# Altium footprint library SnapEDApcb.PcbLib: 1 footprints
Each footprint in its own frame and in the unit in brackets; x right, y up, seen from the top. Pads: shape width x height; smd on the part's side, far side on the other; paste and mask are expansions set on the pad; w line width, h text height; cw(c..) or ccw(c..) is an arc to the next point about the centre after c.
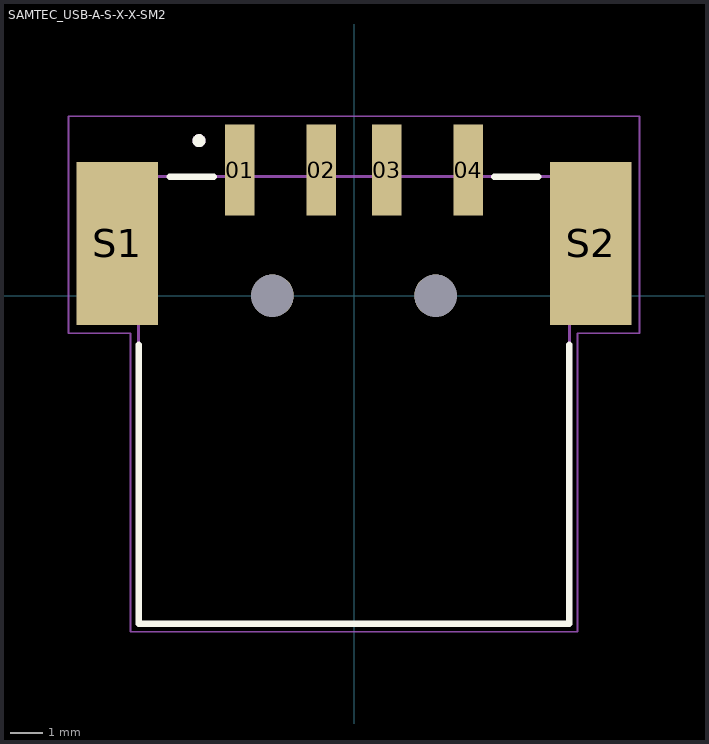
[diagram p0: the footprint, top view; thin cyan lines are the x and y axes]

## SAMTEC_USB-A-S-X-X-SM2 [mm]
pads (8):
  rrect4% 0.9x2.8 smd: 01(-3.5,3.85) 02(-1,3.85) 03(1,3.85) 04(3.5,3.85)
  rect 2.5x5 smd: S1(-7.25,1.6) S2(7.25,1.6)
  round 1.3 hole 1.3 unplated: ""(-2.5,0) ""(2.5,0)
Top Overlay:
  circle w0.2: c-4.75,4.75 r0.1
  lines w0.2: -6.6,-1.5 -6.6,-10.05 6.6,-10.05 6.6,-1.5 ; -5.65,3.65 -4.3,3.65 ; 4.3,3.65 5.65,3.65
Mechanical 13:
  circle w0.2: c-4.75,4.75 r0.1
  lines w0.1: -6.6,-10.05 6.6,-10.05 6.6,3.65 -6.6,3.65 -6.6,-10.05
  text "PCB EDGE" at -3.5,-9.5 h1.02
Mechanical 15:
  lines w0.05: -8.75,-1.15 -6.85,-1.15 -6.85,-10.3 6.85,-10.3 6.85,-1.15 8.75,-1.15 8.75,5.5 -8.75,5.5 -8.75,-1.15